# Altium integrated library BB Converter Analog to Digital.IntLib: 242 symbols (part 6 of 6)
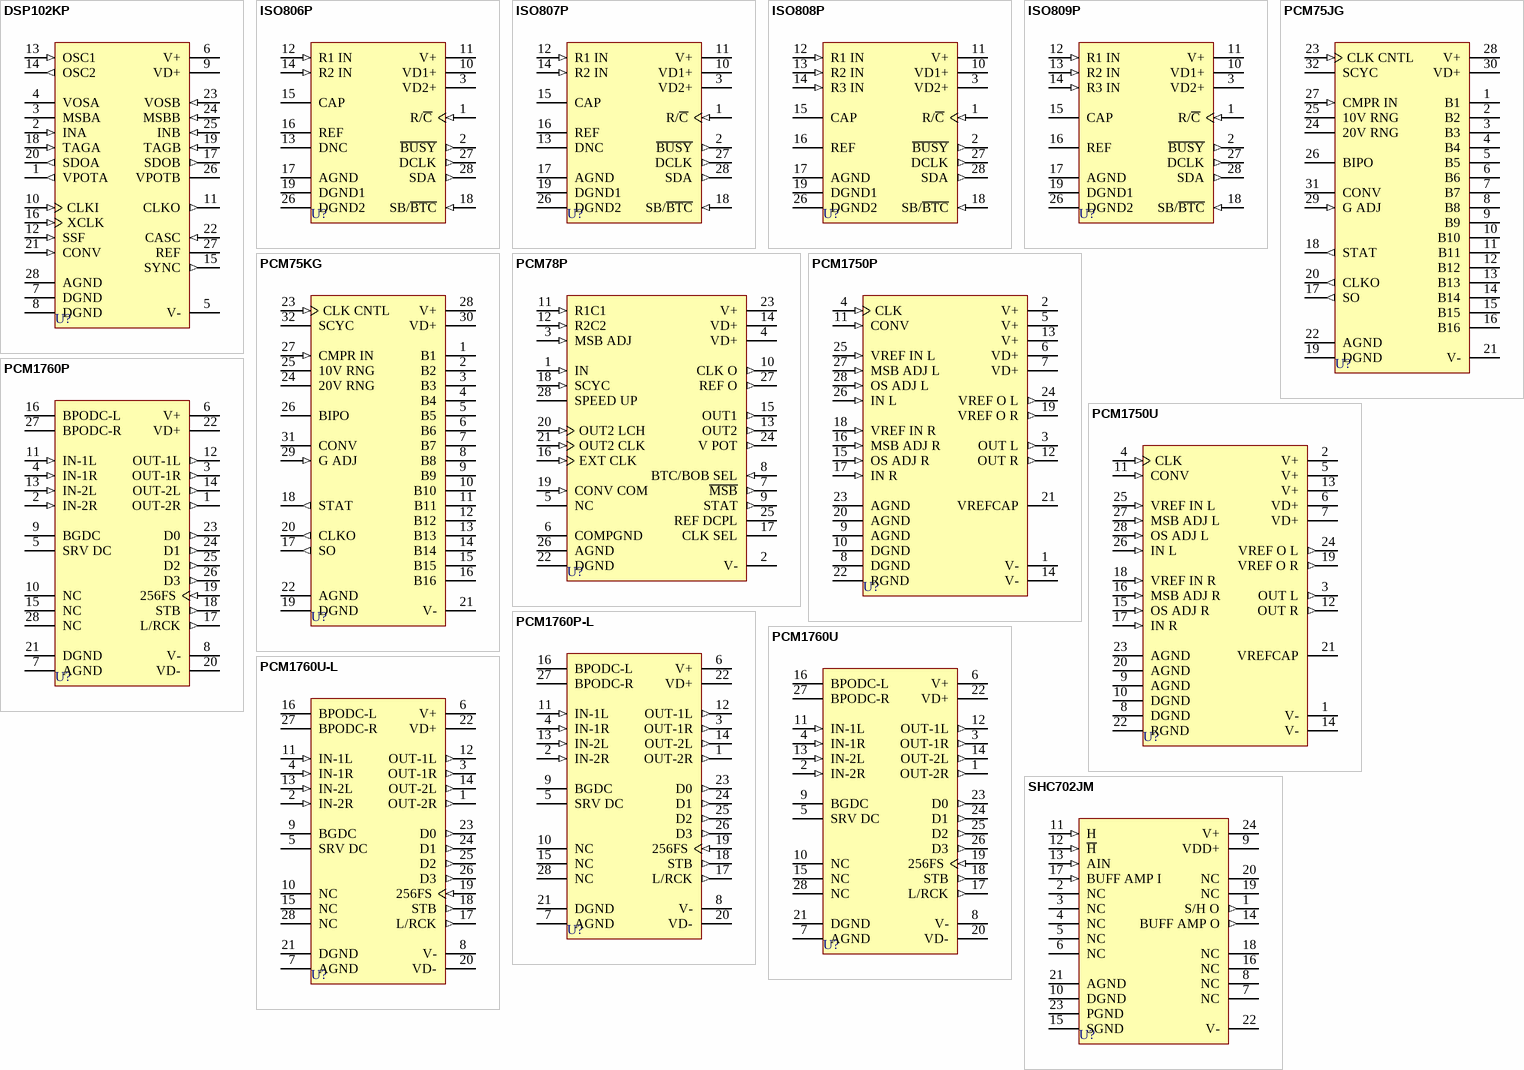
[diagram p14: symbols DSP102KP to SHC702JM]

## PCM75JG
designator U?
16-Bit Hybrid Analog-to-Digital Converter; Published: 8-Jun-2000; LatestRevisionDate: 17-Jul-2002; LatestRevisionNote: Re-released for DXP Platform.; DatasheetVersion: 1989; PackageVersion: 1994; PackageReference: ZZ153; Publisher: Altium Limited; PackageDescription: DIP; 32 Round Pins; Row Space 22.86 mm; Pitch 2.54 mm; ComponentLink1Description: Manufacturer Link; ComponentLink1URL: http://www.ti.com/
footprint ZZ153 (DIP; 32 Round Pins; Row Space 22.86 mm; Pitch 2.54 mm)
pins: 1 B1 (hiz), 2 B2 (hiz), 3 B3 (hiz), 4 B4 (hiz), 5 B5 (hiz), 6 B6 (hiz), 7 B7 (hiz), 8 B8 (hiz), 9 B9 (hiz), 10 B10 (hiz), 11 B11 (hiz), 12 B12 (hiz), 13 B13 (hiz), 14 B14 (hiz), 15 B15 (hiz), 16 B16 (hiz), 17 SO (out), 18 STAT (out), 19 DGND (power), 20 CLKO (out), 21 V- (power), 22 AGND (power), 23 CLK CNTL (in), 24 20V RNG, 25 10V RNG, 26 BIPO, 27 CMPR IN (in), 28 V+ (power), 29 G ADJ (in), 30 VD+ (power), 31 CONV, 32 SCYC

## PCM75KG
designator U?
16-Bit Hybrid Analog-to-Digital Converter; Published: 8-Jun-2000; LatestRevisionDate: 17-Jul-2002; LatestRevisionNote: Re-released for DXP Platform.; DatasheetVersion: 1989; PackageVersion: 1994; PackageReference: ZZ153; Publisher: Altium Limited; PackageDescription: DIP; 32 Round Pins; Row Space 22.86 mm; Pitch 2.54 mm; ComponentLink1Description: Manufacturer Link; ComponentLink1URL: http://www.ti.com/
footprint ZZ153 (DIP; 32 Round Pins; Row Space 22.86 mm; Pitch 2.54 mm)
pins: 1 B1 (hiz), 2 B2 (hiz), 3 B3 (hiz), 4 B4 (hiz), 5 B5 (hiz), 6 B6 (hiz), 7 B7 (hiz), 8 B8 (hiz), 9 B9 (hiz), 10 B10 (hiz), 11 B11 (hiz), 12 B12 (hiz), 13 B13 (hiz), 14 B14 (hiz), 15 B15 (hiz), 16 B16 (hiz), 17 SO (out), 18 STAT (out), 19 DGND (power), 20 CLKO (out), 21 V- (power), 22 AGND (power), 23 CLK CNTL (in), 24 20V RNG, 25 10V RNG, 26 BIPO, 27 CMPR IN (in), 28 V+ (power), 29 G ADJ (in), 30 VD+ (power), 31 CONV, 32 SCYC

## PCM78P
designator U?
16-Bit Audio Analog-to-Digital Converter; Note: Pin 5 is No internal Connection (NC) pin.; ComponentAvailability: Obsolete; Published: 8-Jun-2000; LatestRevisionDate: 06-Jun-2005; LatestRevisionNote: Stylized 3D Model Added.; DatasheetVersion: Oct-1993; PackageVersion: revJ; PackageReference: 215J; Publisher: Altium Limited; PackageDescription: DIP; 28 Leads; Row Spacing 15.24 mm; Pitch 2.54 mm; Code_JEDEC: MS-011-AB; ComponentLink1Description: Manufacturer Link; ComponentLink1URL: http://www.ti.com/; ComponentLink2Description: Datasheet; ComponentLink2URL: http://www-s.ti.com/sc/ds/PCM78.pdf
footprint 215J (DIP; 28 Leads; Row Spacing 15.24 mm; Pitch 2.54 mm)
3D model 215J (DIP; 28 Leads; Row Spacing 15.24 mm; Pitch 2.54 mm)
pins: 1 IN (in), 2 V- (power), 3 MSB ADJ (in), 4 VD+ (power), 5 NC, 6 COMPGND (power), 7 ~{MSB} (out), 8 BTC/BOB SEL (in), 9 STAT (out), 10 CLK O (out), 11 R1C1 (in), 12 R2C2 (in), 13 OUT2 (out), 14 VD+ (power), 15 OUT1 (out), 16 EXT CLK (in), 17 CLK SEL, 18 SCYC (in), 19 CONV COM (in), 20 OUT2 LCH (in), 21 OUT2 CLK (in), 22 DGND (power), 23 V+ (power), 24 V POT (out), 25 REF DCPL, 26 AGND (power), 27 REF O (out), 28 SPEED UP

## PCM1750P
designator U?
Dual CMOS 18-Bit Monolithic Audio Analog-to-Digital Converter; Published: 8-Jun-2000; LatestRevisionDate: 06-Jun-2005; LatestRevisionNote: Stylized 3D Model Added.; DatasheetVersion: Oct-1993; PackageVersion: revJ; PackageReference: 215J; Publisher: Altium Limited; PackageDescription: DIP; 28 Leads; Row Spacing 15.24 mm; Pitch 2.54 mm; Code_JEDEC: MS-011-AB; ComponentLink1Description: Manufacturer Link; ComponentLink1URL: http://www.ti.com/; ComponentLink2Description: Datasheet; ComponentLink2URL: http://www-s.ti.com/sc/ds/PCM1750.pdf
footprint 215J (DIP; 28 Leads; Row Spacing 15.24 mm; Pitch 2.54 mm)
3D model 215J (DIP; 28 Leads; Row Spacing 15.24 mm; Pitch 2.54 mm)
pins: 1 V- (power), 2 V+ (power), 3 OUT L (out), 4 CLK (in), 5 V+ (power), 6 VD+ (power), 7 VD+ (power), 8 DGND (power), 9 AGND (power), 10 DGND (power), 11 CONV (in), 12 OUT R (out), 13 V+ (power), 14 V- (power), 15 OS ADJ R (in), 16 MSB ADJ R (in), 17 IN R (in), 18 VREF IN R (in), 19 VREF O R (out), 20 AGND (power), 21 VREFCAP, 22 RGND (power), 23 AGND (power), 24 VREF O L (out), 25 VREF IN L (in), 26 IN L (in), 27 MSB ADJ L (in), 28 OS ADJ L (in)

## PCM1750U
designator U?
Dual CMOS 18-Bit Monolithic Audio Analog-to-Digital Converter; Published: 8-Jun-2000; LatestRevisionDate: 13-Apr-2006; LatestRevisionNote: IPC-7351 Footprint Added.; DatasheetVersion: Oct-1993; PackageReference: 217G; Publisher: Altium Limited; PackageDescription: 28-Pin Small Outline Integrated Circuit 1.27 mm Pitch; ComponentLink1Description: Manufacturer Link; ComponentLink1URL: http://www.ti.com/; ComponentLink2Description: Datasheet; ComponentLink2URL: http://www-s.ti.com/sc/ds/PCM1750.pdf
footprint 217G_N (SOIC, 28-Leads, Body 17.9x7.5mm, Pitch 1.27mm, IPC Medium Density)
footprint 217G_L (SOIC, 28-Leads, Body 17.9x7.5mm, Pitch 1.27mm, IPC High Density)
footprint 217G_M (SOIC, 28-Leads, Body 17.9x7.5mm, Pitch 1.27mm, IPC Low Density)
3D model 217G (28-Pin Small Outline Integrated Circuit 1.27 mm Pitch)
pins: 1 V- (power), 2 V+ (power), 3 OUT L (out), 4 CLK (in), 5 V+ (power), 6 VD+ (power), 7 VD+ (power), 8 DGND (power), 9 AGND (power), 10 DGND (power), 11 CONV (in), 12 OUT R (out), 13 V+ (power), 14 V- (power), 15 OS ADJ R (in), 16 MSB ADJ R (in), 17 IN R (in), 18 VREF IN R (in), 19 VREF O R (out), 20 AGND (power), 21 VREFCAP, 22 RGND (power), 23 AGND (power), 24 VREF O L (out), 25 VREF IN L (in), 26 IN L (in), 27 MSB ADJ L (in), 28 OS ADJ L (in)

## PCM1760P
designator U?
Multi-Bit Enhanced Noise Shaping 20-Bit Analog-to-Digital Conversion System; Note: Pin 10, 15 and 28 are No internal Connection (NC) pins.; Published: 8-Jun-2000; LatestRevisionDate: 06-Jun-2005; LatestRevisionNote: Stylized 3D Model Added.; DatasheetVersion: Jul-1994; PackageVersion: 1994; PackageReference: 800; Publisher: Altium Limited; PackageDescription: DIP; 28 Leads; Row Spacing 15.24 mm; Pitch 2.54 mm; ComponentLink1Description: Manufacturer Link; ComponentLink1URL: http://www.ti.com/; ComponentLink2Description: Datasheet; ComponentLink2URL: http://www-s.ti.com/sc/ds/PCM1760.pdf
footprint 800 (DIP; 28 Leads; Row Spacing 15.24 mm; Pitch 2.54 mm)
3D model 144 (DIP; 28 Leads; Row Spacing 15.24 mm; Pitch 2.54 mm)
pins: 1 OUT-2R (out), 2 IN-2R (in), 3 OUT-1R (out), 4 IN-1R (in), 5 SRV DC, 6 V+ (power), 7 AGND (power), 8 V- (power), 9 BGDC, 10 NC, 11 IN-1L (in), 12 OUT-1L (out), 13 IN-2L (in), 14 OUT-2L (out), 15 NC, 16 BPODC-L, 17 L/RCK (out), 18 STB (out), 19 256FS (in), 20 VD- (power), 21 DGND (power), 22 VD+ (power), 23 D0 (out), 24 D1 (out), 25 D2 (out), 26 D3 (out), 27 BPODC-R, 28 NC

## PCM1760P-L
designator U?
Multi-Bit Enhanced Noise Shaping 20-Bit Analog-to-Digital Conversion System; Note: Pin 10, 15 and 28 are No internal Connection (NC) pins.; Published: 8-Jun-2000; LatestRevisionDate: 06-Jun-2005; LatestRevisionNote: Stylized 3D Model Added.; DatasheetVersion: Jul-1994; PackageVersion: 1994; PackageReference: 800; Publisher: Altium Limited; PackageDescription: DIP; 28 Leads; Row Spacing 15.24 mm; Pitch 2.54 mm; ComponentLink1Description: Manufacturer Link; ComponentLink1URL: http://www.ti.com/; ComponentLink2Description: Datasheet; ComponentLink2URL: http://www-s.ti.com/sc/ds/PCM1760.pdf
footprint 800 (DIP; 28 Leads; Row Spacing 15.24 mm; Pitch 2.54 mm)
3D model 144 (DIP; 28 Leads; Row Spacing 15.24 mm; Pitch 2.54 mm)
pins: 1 OUT-2R (out), 2 IN-2R (in), 3 OUT-1R (out), 4 IN-1R (in), 5 SRV DC, 6 V+ (power), 7 AGND (power), 8 V- (power), 9 BGDC, 10 NC, 11 IN-1L (in), 12 OUT-1L (out), 13 IN-2L (in), 14 OUT-2L (out), 15 NC, 16 BPODC-L, 17 L/RCK (out), 18 STB (out), 19 256FS (in), 20 VD- (power), 21 DGND (power), 22 VD+ (power), 23 D0 (out), 24 D1 (out), 25 D2 (out), 26 D3 (out), 27 BPODC-R, 28 NC

## PCM1760U
designator U?
Multi-Bit Enhanced Noise Shaping 20-Bit Analog-to-Digital Conversion System; Note: Pin 10, 15 and 28 are No internal Connection (NC) pins.; Published: 8-Jun-2000; LatestRevisionDate: 13-Apr-2006; LatestRevisionNote: IPC-7351 Footprint Added.; DatasheetVersion: Jul-1994; PackageVersion: 1994; PackageReference: 804; Publisher: Altium Limited; PackageDescription: 28-Pin Small Outline Integrated Circuit 1.27 mm Pitch; ComponentLink1Description: Manufacturer Link; ComponentLink1URL: http://www.ti.com/; ComponentLink2Description: Datasheet; ComponentLink2URL: http://www-s.ti.com/sc/ds/PCM1760.pdf
footprint 804_N (SOIC, 28-Leads, Body 17.9x7.5mm, Pitch 1.27mm, IPC Medium Density)
footprint 804_L (SOIC, 28-Leads, Body 17.9x7.5mm, Pitch 1.27mm, IPC High Density)
footprint 804_M (SOIC, 28-Leads, Body 17.9x7.5mm, Pitch 1.27mm, IPC Low Density)
3D model 804 (28-Pin Small Outline Integrated Circuit 1.27 mm Pitch)
pins: 1 OUT-2R (out), 2 IN-2R (in), 3 OUT-1R (out), 4 IN-1R (in), 5 SRV DC, 6 V+ (power), 7 AGND (power), 8 V- (power), 9 BGDC, 10 NC, 11 IN-1L (in), 12 OUT-1L (out), 13 IN-2L (in), 14 OUT-2L (out), 15 NC, 16 BPODC-L, 17 L/RCK (out), 18 STB (out), 19 256FS (in), 20 VD- (power), 21 DGND (power), 22 VD+ (power), 23 D0 (out), 24 D1 (out), 25 D2 (out), 26 D3 (out), 27 BPODC-R, 28 NC

## PCM1760U-L
designator U?
Multi-Bit Enhanced Noise Shaping 20-Bit Analog-to-Digital Conversion System; Note: Pin 10, 15 and 28 are No internal Connection (NC) pins.; Published: 8-Jun-2000; LatestRevisionDate: 13-Apr-2006; LatestRevisionNote: IPC-7351 Footprint Added.; DatasheetVersion: Jul-1994; PackageVersion: 1994; PackageReference: 804; Publisher: Altium Limited; PackageDescription: 28-Pin Small Outline Integrated Circuit 1.27 mm Pitch; ComponentLink1Description: Manufacturer Link; ComponentLink1URL: http://www.ti.com/; ComponentLink2Description: Datasheet; ComponentLink2URL: http://www-s.ti.com/sc/ds/PCM1760.pdf
footprint 804_N (SOIC, 28-Leads, Body 17.9x7.5mm, Pitch 1.27mm, IPC Medium Density)
footprint 804_L (SOIC, 28-Leads, Body 17.9x7.5mm, Pitch 1.27mm, IPC High Density)
footprint 804_M (SOIC, 28-Leads, Body 17.9x7.5mm, Pitch 1.27mm, IPC Low Density)
3D model 804 (28-Pin Small Outline Integrated Circuit 1.27 mm Pitch)
pins: 1 OUT-2R (out), 2 IN-2R (in), 3 OUT-1R (out), 4 IN-1R (in), 5 SRV DC, 6 V+ (power), 7 AGND (power), 8 V- (power), 9 BGDC, 10 NC, 11 IN-1L (in), 12 OUT-1L (out), 13 IN-2L (in), 14 OUT-2L (out), 15 NC, 16 BPODC-L, 17 L/RCK (out), 18 STB (out), 19 256FS (in), 20 VD- (power), 21 DGND (power), 22 VD+ (power), 23 D0 (out), 24 D1 (out), 25 D2 (out), 26 D3 (out), 27 BPODC-R, 28 NC

## SHC702JM
designator U?
16-Bit 500KHz Sampling A/D Converter System; Note: Pins 2,3,4,5,6,7,8,16,18,19 and 20 are No internal Connection (NC) pins.; Published: 8-Jun-2000; LatestRevisionDate: 17-Jul-2002; LatestRevisionNote: Re-released for DXP Platform.; DatasheetVersion: 1989; PackageVersion: 1994; PackageReference: ZZ113; Publisher: Altium Limited; PackageDescription: DIP; 24 Round Pins; Row Space 15.24 mm; Pitch 2.54 mm; ComponentLink1Description: Manufacturer Link; ComponentLink1URL: http://www.ti.com/
footprint ZZ113 (DIP; 24 Round Pins; Row Space 15.24 mm; Pitch 2.54 mm)
pins: 1 S/H O (out), 2 NC, 3 NC, 4 NC, 5 NC, 6 NC, 7 NC, 8 NC, 9 VDD+ (power), 10 DGND (power), 11 H (in), 12 ~{H} (in), 13 AIN (in), 14 BUFF AMP O (out), 15 SGND (power), 16 NC, 17 BUFF AMP I (in), 18 NC, 19 NC, 20 NC, 21 AGND (power), 22 V- (power), 23 PGND (power), 24 V+ (power)